# EAGLE library part AD8180 (library analog_devices)
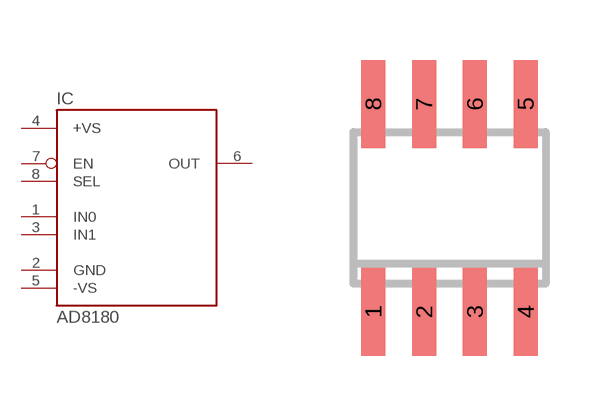
[diagram p0: symbol with the pads of SO8; footprint SO8]

Designator prefix IC

## AD8180  [SO8]
1  IN0  in
2  GND  pwr
3  IN1  in
4  +VS  pwr
5  -VS  pwr
6  OUT  out
7  EN  in
8  SEL  in

## Footprint SO8 (pad centres in mm)
8-Lead Small Outline IC (SO-8) Source: http://www.analog.com/UploadedFiles/Data_Sheets/703465986AD8611_2_0.pdf
smd 0.6 x 2.2: 1 -1.905,-2.6; 2 -0.635,-2.6; 3 0.635,-2.6; 4 1.905,-2.6; 5 1.905,2.6; 6 0.635,2.6; 7 -0.635,2.6; 8 -1.905,2.6